# Altium schematic symbol library TPS564257DRLR.SchLib: 2 symbols
Pins are listed as number, name and electrical type; pins without a type are passive.

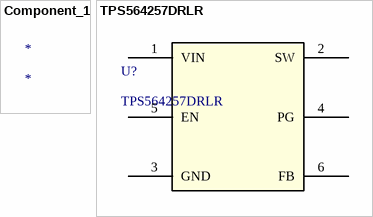
[diagram p0: symbols Component_1 to TPS564257DRLR]

## Component_1
designator *

## TPS564257DRLR
designator U?
No Description Available; Mfr_Name: Texas Instruments; Type: DEV; Copyright: Copyright (C) 2023 Ultra Librarian. All rights reserved.; Manufacturer_Part_Number: TPS564257DRLR; RefDes: RefDes
footprint TPS564242DRLR_TEX
pins: 1 VIN (power), 2 SW (power), 3 GND (power), 4 PG, 5 EN, 6 FB